# EAGLE library part MIC5211 (library open-bldc)
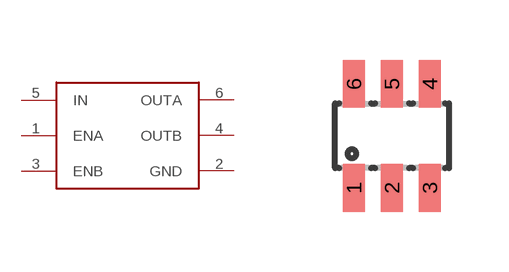
[diagram p2: symbol with the pads of SO23-6; footprint SO23-6]

Designator prefix -

## MIC5211  [SO23-6]
1  ENA
2  GND
3  ENB
4  OUTB
5  IN
6  OUTA

## Footprint SO23-6 (pad centres in mm)
smd 0.55 x 1.2: 1 -0.95,-1.3; 2 0,-1.3; 3 0.95,-1.3; 4 0.95,1.3; 5 0,1.3; 6 -0.95,1.3